# EAGLE library part TDA2540/2541 (library Audio-Power-amlifier V.2.0)
The TDA2540 and 2541 are IF amplifier and A.M. demodulator circuits for colour and black and white televisionreceiversusingPNPorNPNtuners. They are intended for reception of negative or positive modulation CCIR standard.
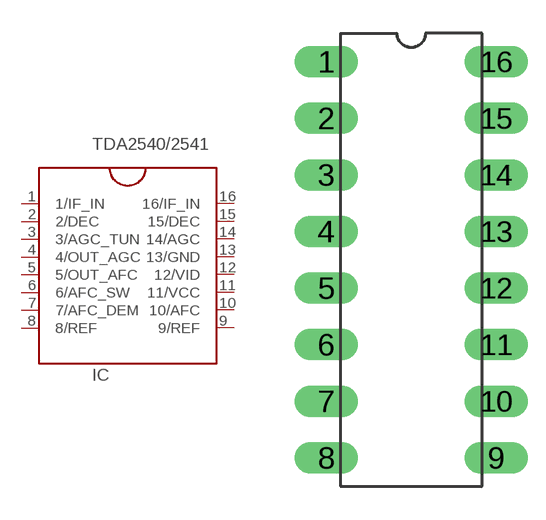
[diagram p116: symbol with the pads of DIL16; footprint DIL16]

Designator prefix IC

## TDA2540/2541  [DIL16]
1  1/IF_IN  in
2  2/DEC
3  3/AGC_TUN
4  4/OUT_AGC  out
5  5/OUT_AFC  out
6  6/AFC_SW
7  7/AFC_DEM
8  8/REF
9  9/REF
10  10/AFC
11  11/VCC  pwr
12  12/VID  out
13  13/GND  pwr
14  14/AGC
15  15/DEC
16  16/IF_IN  in

## Footprint DIL16 (pad centres in mm)
drill 0.8 pad 1.422 long: 1 -3.81,8.89; 2 -3.81,6.35; 3 -3.81,3.81; 4 -3.81,1.27; 5 -3.81,-1.27; 6 -3.81,-3.81; 7 -3.81,-6.35; 8 -3.81,-8.89; 9 3.81,-8.89; 10 3.81,-6.35; 11 3.81,-3.81; 12 3.81,-1.27; 13 3.81,1.27; 14 3.81,3.81; 15 3.81,6.35; 16 3.81,8.89